# Altium footprint library IC_SMT.PcbLib: 81 footprints (part 4 of 6)
Each footprint in its own frame and in the unit in brackets; x right, y up, seen from the top. Pads: shape width x height; smd on the part's side, far side on the other; paste and mask are expansions set on the pad; w line width, h text height; cw(c..) or ccw(c..) is an arc to the next point about the centre after c.
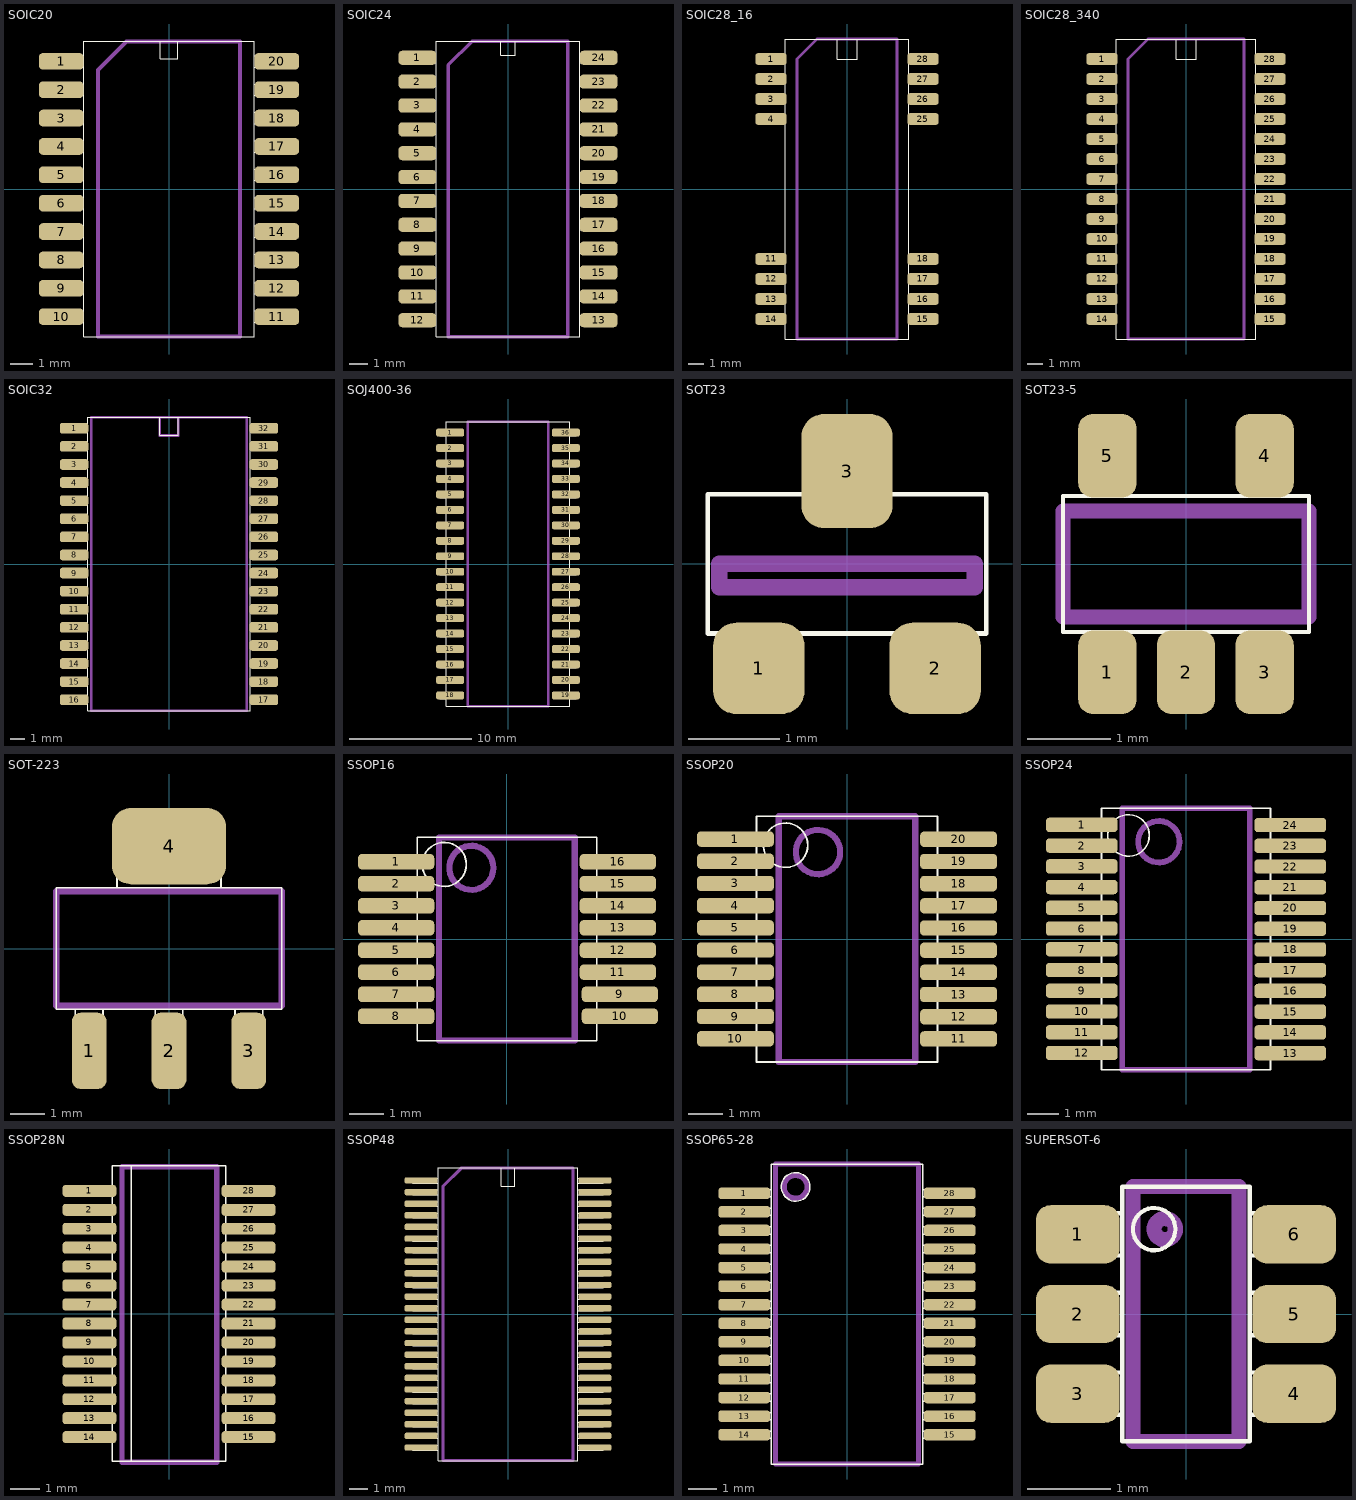
[diagram p3: the footprints below, top view; thin cyan lines are the x and y axes]

## SOIC20 [mm]
height 1.905
pads (20):
  rrect50% 2x0.75 smd paste+0: 1(-4.826,5.715) 2(-4.826,4.445) 3(-4.826,3.175) 4(-4.826,1.905) 5(-4.826,0.635) 6(-4.826,-0.635) 7(-4.826,-1.905) 8(-4.826,-3.175) 9(-4.826,-4.445) 10(-4.826,-5.715) 11(4.826,-5.715) 12(4.826,-4.445) 13(4.826,-3.175) 14(4.826,-1.905) 15(4.826,-0.635) 16(4.826,0.635) 17(4.826,1.905) 18(4.826,3.175) 19(4.826,4.445) 20(4.826,5.715)
Top Overlay:
  lines w0.05: -3.81,-5.969 -5.334,-5.969 -5.334,-5.461 -3.81,-5.461 ; -3.81,-4.699 -5.334,-4.699 -5.334,-4.191 -3.81,-4.191 ; -3.81,-3.429 -5.334,-3.429 -5.334,-2.921 -3.81,-2.921 ; -3.81,-2.159 -5.334,-2.159 -5.334,-1.651 -3.81,-1.651 ; -3.81,-0.889 -5.334,-0.889 -5.334,-0.381 -3.81,-0.381 ; -3.81,0.381 -5.334,0.381 -5.334,0.889 -3.81,0.889 ; -3.81,1.651 -5.334,1.651 -5.334,2.159 -3.81,2.159 ; -3.81,2.921 -5.334,2.921 -5.334,3.429 -3.81,3.429 ; -3.81,4.191 -5.334,4.191 -5.334,4.699 -3.81,4.699 ; -3.81,5.461 -5.334,5.461 -5.334,5.969 -3.81,5.969 ; -0.381,6.604 -0.381,5.842 0.381,5.842 0.381,6.604 ; 3.81,-5.969 5.334,-5.969 5.334,-5.461 3.81,-5.461 ; 3.81,-4.699 5.334,-4.699 5.334,-4.191 3.81,-4.191 ; 3.81,-3.429 5.334,-3.429 5.334,-2.921 3.81,-2.921 ; 3.81,-2.159 5.334,-2.159 5.334,-1.651 3.81,-1.651 ; 3.81,-0.889 5.334,-0.889 5.334,-0.381 3.81,-0.381 ; 3.81,0.381 5.334,0.381 5.334,0.889 3.81,0.889 ; 3.81,1.651 5.334,1.651 5.334,2.159 3.81,2.159 ; 3.81,2.921 5.334,2.921 5.334,3.429 3.81,3.429 ; 3.81,4.191 5.334,4.191 5.334,4.699 3.81,4.699 ; 3.81,5.461 5.334,5.461 5.334,5.969 3.81,5.969 ; -3.81,-6.604 3.81,-6.604 3.81,6.604 -3.81,6.604 -3.81,-6.604
Comp Silk:
  lines w0.18: -3.175,-6.604 3.175,-6.604 3.175,6.604 -1.905,6.604 -3.175,5.334 -3.175,-6.604
  text ".Designator" at -1.778,-6.223 h1.5

## SOIC24 [mm]
height 1.905
pads (24):
  rrect50% 2x0.75 smd paste+0: 1(-4.826,6.985) 2(-4.826,5.715) 3(-4.826,4.445) 4(-4.826,3.175) 5(-4.826,1.905) 6(-4.826,0.635) 7(-4.826,-0.635) 8(-4.826,-1.905) 9(-4.826,-3.175) 10(-4.826,-4.445) 11(-4.826,-5.715) 12(-4.826,-6.985) 13(4.826,-6.985) 14(4.826,-5.715) 15(4.826,-4.445) 16(4.826,-3.175) 17(4.826,-1.905) 18(4.826,-0.635) 19(4.826,0.635) 20(4.826,1.905) 21(4.826,3.175) 22(4.826,4.445) 23(4.826,5.715) 24(4.826,6.985)
Top Overlay:
  lines w0.05: -3.81,-7.239 -5.334,-7.239 -5.334,-6.731 -3.81,-6.731 ; -3.81,-5.969 -5.334,-5.969 -5.334,-5.461 -3.81,-5.461 ; -3.81,-4.699 -5.334,-4.699 -5.334,-4.191 -3.81,-4.191 ; -3.81,-3.429 -5.334,-3.429 -5.334,-2.921 -3.81,-2.921 ; -3.81,-2.159 -5.334,-2.159 -5.334,-1.651 -3.81,-1.651 ; -3.81,-0.889 -5.334,-0.889 -5.334,-0.381 -3.81,-0.381 ; -3.81,0.381 -5.334,0.381 -5.334,0.889 -3.81,0.889 ; -3.81,1.651 -5.334,1.651 -5.334,2.159 -3.81,2.159 ; -3.81,2.921 -5.334,2.921 -5.334,3.429 -3.81,3.429 ; -3.81,4.191 -5.334,4.191 -5.334,4.699 -3.81,4.699 ; -3.81,5.461 -5.334,5.461 -5.334,5.969 -3.81,5.969 ; -3.81,6.731 -5.334,6.731 -5.334,7.239 -3.81,7.239 ; -0.381,7.874 -0.381,7.112 0.381,7.112 0.381,7.874 ; 3.81,-7.239 5.334,-7.239 5.334,-6.731 3.81,-6.731 ; 3.81,-5.969 5.334,-5.969 5.334,-5.461 3.81,-5.461 ; 3.81,-4.699 5.334,-4.699 5.334,-4.191 3.81,-4.191 ; 3.81,-3.429 5.334,-3.429 5.334,-2.921 3.81,-2.921 ; 3.81,-2.159 5.334,-2.159 5.334,-1.651 3.81,-1.651 ; 3.81,-0.889 5.334,-0.889 5.334,-0.381 3.81,-0.381 ; 3.81,0.381 5.334,0.381 5.334,0.889 3.81,0.889 ; 3.81,1.651 5.334,1.651 5.334,2.159 3.81,2.159 ; 3.81,2.921 5.334,2.921 5.334,3.429 3.81,3.429 ; 3.81,4.191 5.334,4.191 5.334,4.699 3.81,4.699 ; 3.81,5.461 5.334,5.461 5.334,5.969 3.81,5.969 ; 3.81,6.731 5.334,6.731 5.334,7.239 3.81,7.239 ; -3.81,-7.874 -3.81,7.874 3.81,7.874 3.81,-7.874 -3.81,-7.874
Comp Silk:
  lines w0.18: -3.175,-7.874 -3.175,6.604 -1.905,7.874 3.175,7.874 3.175,-7.874 -3.175,-7.874
  text ".Designator" at -1.651,-7.239 h1.5

## SOIC28_16 [mm]
height 9.525
pads (16):
  rrect50% 2x0.75 smd paste+0: 1(-4.826,8.255) 2(-4.826,6.985) 3(-4.826,5.715) 4(-4.826,4.445) 11(-4.826,-4.445) 12(-4.826,-5.715) 13(-4.826,-6.985) 14(-4.826,-8.255) 15(4.826,-8.255) 16(4.826,-6.985) 17(4.826,-5.715) 18(4.826,-4.445) 25(4.826,4.445) 26(4.826,5.715) 27(4.826,6.985) 28(4.826,8.255)
Top Overlay:
  lines w0.05: -3.937,-8.509 -4.826,-8.509 -4.826,-8.001 -3.937,-8.001 ; -3.937,-7.239 -4.826,-7.239 -4.826,-6.731 -3.937,-6.731 ; -3.937,-5.969 -4.826,-5.969 -4.826,-5.461 -3.937,-5.461 ; -3.937,-4.699 -4.826,-4.699 -4.826,-4.191 -3.937,-4.191 ; -3.937,4.191 -4.826,4.191 -4.826,4.699 -3.937,4.699 ; -3.937,5.461 -4.826,5.461 -4.826,5.969 -3.937,5.969 ; -3.937,6.731 -4.826,6.731 -4.826,7.239 -3.937,7.239 ; -3.937,8.001 -4.826,8.001 -4.826,8.509 -3.937,8.509 ; -0.635,9.525 -0.635,8.255 0.635,8.255 0.635,9.525 ; 3.937,-8.509 4.826,-8.509 4.826,-8.001 3.937,-8.001 ; 3.937,-7.239 4.826,-7.239 4.826,-6.731 3.937,-6.731 ; 3.937,-5.969 4.826,-5.969 4.826,-5.461 3.937,-5.461 ; 3.937,-4.699 4.826,-4.699 4.826,-4.191 3.937,-4.191 ; 3.937,4.191 4.826,4.191 4.826,4.699 3.937,4.699 ; 3.937,5.461 4.826,5.461 4.826,5.969 3.937,5.969 ; 3.937,6.731 4.826,6.731 4.826,7.239 3.937,7.239 ; 3.937,8.001 4.826,8.001 4.826,8.509 3.937,8.509 ; -3.937,-9.525 -3.937,9.525 3.937,9.525 3.937,-9.525 -3.937,-9.525
Comp Silk:
  lines w0.18: -3.175,-9.525 -3.175,8.255 -1.905,9.525 3.175,9.525 3.175,-9.525 -3.175,-9.525
  text ".Designator" at -1.397,-8.382 h1.5

## SOIC28_340 [mm]
height 1.905
pads (28):
  rrect50% 2x0.75 smd paste+0: 1(-5.334,8.255) 2(-5.334,6.985) 3(-5.334,5.715) 4(-5.334,4.445) 5(-5.334,3.175) 6(-5.334,1.905) 7(-5.334,0.635) 8(-5.334,-0.635) 9(-5.334,-1.905) 10(-5.334,-3.175) 11(-5.334,-4.445) 12(-5.334,-5.715) 13(-5.334,-6.985) 14(-5.334,-8.255) 15(5.334,-8.255) 16(5.334,-6.985) 17(5.334,-5.715) 18(5.334,-4.445) 19(5.334,-3.175) 20(5.334,-1.905) 21(5.334,-0.635) 22(5.334,0.635) 23(5.334,1.905) 24(5.334,3.175) 25(5.334,4.445) 26(5.334,5.715) 27(5.334,6.985) 28(5.334,8.255)
Top Overlay:
  lines w0.05: -4.445,-8.509 -5.334,-8.509 -5.334,-8.001 -4.445,-8.001 ; -4.445,-7.239 -5.334,-7.239 -5.334,-6.731 -4.445,-6.731 ; -4.445,-5.969 -5.334,-5.969 -5.334,-5.461 -4.445,-5.461 ; -4.445,-4.699 -5.334,-4.699 -5.334,-4.191 -4.445,-4.191 ; -4.445,-3.429 -5.334,-3.429 -5.334,-2.921 -4.445,-2.921 ; -4.445,-2.159 -5.334,-2.159 -5.334,-1.651 -4.445,-1.651 ; -4.445,-0.889 -5.334,-0.889 -5.334,-0.381 -4.445,-0.381 ; -4.445,0.381 -5.334,0.381 -5.334,0.889 -4.445,0.889 ; -4.445,1.651 -5.334,1.651 -5.334,2.159 -4.445,2.159 ; -4.445,2.921 -5.334,2.921 -5.334,3.429 -4.445,3.429 ; -4.445,4.191 -5.334,4.191 -5.334,4.699 -4.445,4.699 ; -4.445,5.461 -5.334,5.461 -5.334,5.969 -4.445,5.969 ; -4.445,6.731 -5.334,6.731 -5.334,7.239 -4.445,7.239 ; -4.445,8.001 -5.334,8.001 -5.334,8.509 -4.445,8.509 ; -0.635,9.525 -0.635,8.255 0.635,8.255 0.635,9.525 ; 4.445,-8.509 5.334,-8.509 5.334,-8.001 4.445,-8.001 ; 4.445,-7.239 5.334,-7.239 5.334,-6.731 4.445,-6.731 ; 4.445,-5.969 5.334,-5.969 5.334,-5.461 4.445,-5.461 ; 4.445,-4.699 5.334,-4.699 5.334,-4.191 4.445,-4.191 ; 4.445,-3.429 5.334,-3.429 5.334,-2.921 4.445,-2.921 ; 4.445,-2.159 5.334,-2.159 5.334,-1.651 4.445,-1.651 ; 4.445,-0.889 5.334,-0.889 5.334,-0.381 4.445,-0.381 ; 4.445,0.381 5.334,0.381 5.334,0.889 4.445,0.889 ; 4.445,1.651 5.334,1.651 5.334,2.159 4.445,2.159 ; 4.445,2.921 5.334,2.921 5.334,3.429 4.445,3.429 ; 4.445,4.191 5.334,4.191 5.334,4.699 4.445,4.699 ; 4.445,5.461 5.334,5.461 5.334,5.969 4.445,5.969 ; 4.445,6.731 5.334,6.731 5.334,7.239 4.445,7.239 ; 4.445,8.001 5.334,8.001 5.334,8.509 4.445,8.509 ; -4.445,-9.525 -4.445,9.525 4.445,9.525 4.445,-9.525 -4.445,-9.525
Comp Silk:
  lines w0.18: -3.683,-9.525 -3.683,8.255 -2.413,9.525 3.683,9.525 3.683,-9.525 -3.683,-9.525
  text ".Designator" at -1.524,-9.017 h1.5

## SOIC32 [mm]
height 2.54
pads (32):
  rrect50% 2x0.75 smd paste+0: 1(-6.655,9.525) 2(-6.655,8.255) 3(-6.655,6.985) 4(-6.655,5.715) 5(-6.655,4.445) 6(-6.655,3.175) 7(-6.655,1.905) 8(-6.655,0.635) 9(-6.655,-0.635) 10(-6.655,-1.905) 11(-6.655,-3.175) 12(-6.655,-4.445) 13(-6.655,-5.715) 14(-6.655,-6.985) 15(-6.655,-8.255) 16(-6.655,-9.525) 17(6.655,-9.525) 18(6.655,-8.255) 19(6.655,-6.985) 20(6.655,-5.715) 21(6.655,-4.445) 22(6.655,-3.175) 23(6.655,-1.905) 24(6.655,-0.635) 25(6.655,0.635) 26(6.655,1.905) 27(6.655,3.175) 28(6.655,4.445) 29(6.655,5.715) 30(6.655,6.985) 31(6.655,8.255) 32(6.655,9.525)
Top Overlay:
  lines w0.05: -5.715,-9.779 -7.112,-9.779 -7.112,-9.271 -5.715,-9.271 ; -5.715,-8.509 -7.112,-8.509 -7.112,-8.001 -5.715,-8.001 ; -5.715,-7.239 -7.112,-7.239 -7.112,-6.731 -5.715,-6.731 ; -5.715,-5.969 -7.112,-5.969 -7.112,-5.461 -5.715,-5.461 ; -5.715,-4.699 -7.112,-4.699 -7.112,-4.191 -5.715,-4.191 ; -5.715,-3.429 -7.112,-3.429 -7.112,-2.921 -5.715,-2.921 ; -5.715,-2.159 -7.112,-2.159 -7.112,-1.651 -5.715,-1.651 ; -5.715,-0.889 -7.112,-0.889 -7.112,-0.381 -5.715,-0.381 ; -5.715,0.381 -7.112,0.381 -7.112,0.889 -5.715,0.889 ; -5.715,1.651 -7.112,1.651 -7.112,2.159 -5.715,2.159 ; -5.715,2.921 -7.112,2.921 -7.112,3.429 -5.715,3.429 ; -5.715,4.191 -7.112,4.191 -7.112,4.699 -5.715,4.699 ; -5.715,5.461 -7.112,5.461 -7.112,5.969 -5.715,5.969 ; -5.715,6.731 -7.112,6.731 -7.112,7.239 -5.715,7.239 ; -5.715,8.001 -7.112,8.001 -7.112,8.509 -5.715,8.509 ; -5.715,9.271 -7.112,9.271 -7.112,9.779 -5.715,9.779 ; -0.635,10.287 -0.635,9.017 0.635,9.017 0.635,10.287 ; 5.715,-9.779 7.112,-9.779 7.112,-9.271 5.715,-9.271 ; 5.715,-8.509 7.112,-8.509 7.112,-8.001 5.715,-8.001 ; 5.715,-7.239 7.112,-7.239 7.112,-6.731 5.715,-6.731 ; 5.715,-5.969 7.112,-5.969 7.112,-5.461 5.715,-5.461 ; 5.715,-4.699 7.112,-4.699 7.112,-4.191 5.715,-4.191 ; 5.715,-3.429 7.112,-3.429 7.112,-2.921 5.715,-2.921 ; 5.715,-2.159 7.112,-2.159 7.112,-1.651 5.715,-1.651 ; 5.715,-0.889 7.112,-0.889 7.112,-0.381 5.715,-0.381 ; 5.715,0.381 7.112,0.381 7.112,0.889 5.715,0.889 ; 5.715,1.651 7.112,1.651 7.112,2.159 5.715,2.159 ; 5.715,2.921 7.112,2.921 7.112,3.429 5.715,3.429 ; 5.715,4.191 7.112,4.191 7.112,4.699 5.715,4.699 ; 5.715,5.461 7.112,5.461 7.112,5.969 5.715,5.969 ; 5.715,6.731 7.112,6.731 7.112,7.239 5.715,7.239 ; 5.715,8.001 7.112,8.001 7.112,8.509 5.715,8.509 ; 5.715,9.271 7.112,9.271 7.112,9.779 5.715,9.779 ; -5.715,-10.287 5.715,-10.287 5.715,10.287 -5.715,10.287 -5.715,-10.287
Comp Silk:
  lines w0.18: -0.635,10.287 -0.635,9.017 0.635,9.017 0.635,10.287 ; -5.461,-10.287 -5.461,10.287 5.461,10.287 5.461,-10.287 -5.461,-10.287
  text ".Designator" at -2.794,-9.271 h1.5

## SOJ400-36 [mm]
height 3.81
pads (36):
  rrect50% 2.3x0.65 smd paste+0: 1(-4.75,10.795) 2(-4.75,9.525) 3(-4.75,8.255) 4(-4.75,6.985) 5(-4.75,5.715) 6(-4.75,4.445) 7(-4.75,3.175) 8(-4.75,1.905) 9(-4.75,0.635) 10(-4.75,-0.635) 11(-4.75,-1.905) 12(-4.75,-3.175) 13(-4.75,-4.445) 14(-4.75,-5.715) 15(-4.75,-6.985) 16(-4.75,-8.255) 17(-4.75,-9.525) 18(-4.75,-10.795) 19(4.75,-10.795) 20(4.75,-9.525) 21(4.75,-8.255) 22(4.75,-6.985) 23(4.75,-5.715) 24(4.75,-4.445) 25(4.75,-3.175) 26(4.75,-1.905) 27(4.75,-0.635) 28(4.75,0.635) 29(4.75,1.905) 30(4.75,3.175) 31(4.75,4.445) 32(4.75,5.715) 33(4.75,6.985) 34(4.75,8.255) 35(4.75,9.525) 36(4.75,10.795)
MidLayer4:
  lines w0.051: -6.477,-12.319 -6.477,12.319 6.477,12.319 6.477,-12.319 -6.477,-12.319
Top Overlay:
  lines w0.05: -5.08,-11.049 -5.588,-11.049 -5.588,-10.541 -5.08,-10.541 ; -5.08,-9.779 -5.588,-9.779 -5.588,-9.271 -5.08,-9.271 ; -5.08,-8.509 -5.588,-8.509 -5.588,-8.001 -5.08,-8.001 ; -5.08,-7.239 -5.588,-7.239 -5.588,-6.731 -5.08,-6.731 ; -5.08,-5.969 -5.588,-5.969 -5.588,-5.461 -5.08,-5.461 ; -5.08,-4.699 -5.588,-4.699 -5.588,-4.191 -5.08,-4.191 ; -5.08,-3.429 -5.588,-3.429 -5.588,-2.921 -5.08,-2.921 ; -5.08,-2.159 -5.588,-2.159 -5.588,-1.651 -5.08,-1.651 ; -5.08,-0.889 -5.588,-0.889 -5.588,-0.381 -5.08,-0.381 ; -5.08,0.381 -5.588,0.381 -5.588,0.889 -5.08,0.889 ; -5.08,1.651 -5.588,1.651 -5.588,2.159 -5.08,2.159 ; -5.08,2.921 -5.588,2.921 -5.588,3.429 -5.08,3.429 ; -5.08,4.191 -5.588,4.191 -5.588,4.699 -5.08,4.699 ; -5.08,5.461 -5.588,5.461 -5.588,5.969 -5.08,5.969 ; -5.08,6.731 -5.588,6.731 -5.588,7.239 -5.08,7.239 ; -5.08,8.001 -5.588,8.001 -5.588,8.509 -5.08,8.509 ; -5.08,9.271 -5.588,9.271 -5.588,9.779 -5.08,9.779 ; -5.08,10.541 -5.588,10.541 -5.588,11.049 -5.08,11.049 ; 5.08,-11.049 5.588,-11.049 5.588,-10.541 5.08,-10.541 ; 5.08,-9.779 5.588,-9.779 5.588,-9.271 5.08,-9.271 ; 5.08,-8.509 5.588,-8.509 5.588,-8.001 5.08,-8.001 ; 5.08,-7.239 5.588,-7.239 5.588,-6.731 5.08,-6.731 ; 5.08,-5.969 5.588,-5.969 5.588,-5.461 5.08,-5.461 ; 5.08,-4.699 5.588,-4.699 5.588,-4.191 5.08,-4.191 ; 5.08,-3.429 5.588,-3.429 5.588,-2.921 5.08,-2.921 ; 5.08,-2.159 5.588,-2.159 5.588,-1.651 5.08,-1.651 ; 5.08,-0.889 5.588,-0.889 5.588,-0.381 5.08,-0.381 ; 5.08,0.381 5.588,0.381 5.588,0.889 5.08,0.889 ; 5.08,1.651 5.588,1.651 5.588,2.159 5.08,2.159 ; 5.08,2.921 5.588,2.921 5.588,3.429 5.08,3.429 ; 5.08,4.191 5.588,4.191 5.588,4.699 5.08,4.699 ; 5.08,5.461 5.588,5.461 5.588,5.969 5.08,5.969 ; 5.08,6.731 5.588,6.731 5.588,7.239 5.08,7.239 ; 5.08,8.001 5.588,8.001 5.588,8.509 5.08,8.509 ; 5.08,9.271 5.588,9.271 5.588,9.779 5.08,9.779 ; 5.08,10.541 5.588,10.541 5.588,11.049 5.08,11.049 ; -5.08,-11.684 5.08,-11.684 5.08,11.684 -5.08,11.684 -5.08,-11.684
Comp Silk:
  lines w0.18: -3.302,-11.684 -3.302,11.684 3.302,11.684 3.302,-11.684 -3.302,-11.684
  text ".Designator" at -1.016,-8.128 h1.5

## SOT23 [mm]
height 1.27
pads (3):
  rrect50% 1x1 smd paste+0: 1(-0.965,-1.143) 2(0.965,-1.143)
  rrect50% 1x1.25 smd paste+0: 3(0,1.016)
Top Overlay:
  lines w0.05: -1.219,-0.762 -1.219,-1.524 -0.711,-1.524 -0.711,-0.762 ; -0.254,0.762 -0.254,1.524 0.254,1.524 0.254,0.762 ; 0.711,-0.762 0.711,-1.524 1.219,-1.524 1.219,-0.762 ; -1.524,-0.762 -1.524,0.762 1.524,0.762 1.524,-0.762 -1.524,-0.762
Comp Silk:
  lines w0.18: -1.397,-0.254 -1.397,0 1.397,0 1.397,-0.254 -1.397,-0.254
  text ".Designator" at -1.524,0.254 h1.5

## SOT23-5 [mm]
height 1.27
pads (5):
  rrect50% 0.7x1 smd paste+0: 1(-0.94,-1.295) 2(0,-1.295) 3(0.94,-1.295) 4(0.94,1.295) 5(-0.94,1.295)
Top Overlay:
  lines w0.05: -1.143,-0.813 -1.143,-1.448 -0.737,-1.448 -0.737,-0.813 ; -1.143,0.813 -1.143,1.448 -0.737,1.448 -0.737,0.813 ; -0.203,-0.813 -0.203,-1.448 0.203,-1.448 0.203,-0.813 ; 0.737,-0.813 0.737,-1.448 1.143,-1.448 1.143,-0.813 ; 0.737,0.813 0.737,1.448 1.143,1.448 1.143,0.813 ; -1.473,-0.813 -1.473,0.813 1.473,0.813 1.473,-0.813 -1.473,-0.813
Comp Silk:
  lines w0.18: -1.473,-0.635 -1.473,0.635 1.473,0.635 1.473,-0.635 -1.473,-0.635
  text ".Designator" at -1.6,0.254 h1.5

## SOT-223 [mm]
height 2.54
pads (4):
  rrect50% 1x2.2 smd paste+0: 1(-2.3,-2.95) 2(0,-2.95) 3(2.3,-2.95)
  rrect50% 3.3x2.2 smd paste+0: 4(0,2.95)
Top Overlay:
  lines w0.05: -2.7,-1.75 -2.7,-3.5 -1.9,-3.5 -1.9,-1.75 ; -1.5,1.75 -1.5,3.5 1.5,3.5 1.5,1.75 ; -0.4,-1.75 -0.4,-3.5 0.4,-3.5 0.4,-1.75 ; 1.9,-1.75 1.9,-3.5 2.7,-3.5 2.7,-1.75 ; -3.25,-1.75 -3.25,1.75 3.25,1.75 3.25,-1.75 -3.25,-1.75
Comp Silk:
  lines w0.18: -3.25,-1.65 -3.25,1.65 3.25,1.65 3.25,-1.65 -3.25,-1.65
  text ".Designator" at -3.048,0.762 h1.5

## SSOP16 [mm]
height 2.032
pads (16):
  rrect50% 2.25x0.45 smd paste+0: 1(-3.27,2.28) 2(-3.27,1.63) 3(-3.27,0.98) 4(-3.27,0.33) 5(-3.27,-0.33) 6(-3.27,-0.98) 7(-3.27,-1.63) 8(-3.27,-2.28) 9(3.33,-1.63) 10(3.33,-2.28) 11(3.27,-0.98) 12(3.27,-0.33) 13(3.27,0.33) 14(3.27,0.98) 15(3.27,1.63) 16(3.27,2.28)
Top Overlay:
  circle w0.05: c-1.85,2.2 r0.65
  lines w0.05: -2.65,-2.4 -3.9,-2.4 -3.9,-2.15 -2.65,-2.15 ; -2.65,-1.75 -3.9,-1.75 -3.9,-1.5 -2.65,-1.5 ; -2.65,-1.1 -3.9,-1.1 -3.9,-0.85 -2.65,-0.85 ; -2.65,-0.45 -3.9,-0.45 -3.9,-0.2 -2.65,-0.2 ; -2.65,0.2 -3.9,0.2 -3.9,0.45 -2.65,0.45 ; -2.65,0.85 -3.9,0.85 -3.9,1.1 -2.65,1.1 ; -2.65,1.5 -3.9,1.5 -3.9,1.75 -2.65,1.75 ; -2.65,2.15 -3.9,2.15 -3.9,2.4 -2.65,2.4 ; 2.65,-2.4 3.9,-2.4 3.9,-2.15 2.65,-2.15 ; 2.65,-1.75 3.9,-1.75 3.9,-1.5 2.65,-1.5 ; 2.65,-1.1 3.9,-1.1 3.9,-0.85 2.65,-0.85 ; 2.65,-0.45 3.9,-0.45 3.9,-0.2 2.65,-0.2 ; 2.65,0.2 3.9,0.2 3.9,0.45 2.65,0.45 ; 2.65,0.85 3.9,0.85 3.9,1.1 2.65,1.1 ; 2.65,1.5 3.9,1.5 3.9,1.75 2.65,1.75 ; 2.65,2.15 3.9,2.15 3.9,2.4 2.65,2.4 ; -2.65,-3 2.65,-3 2.65,3 -2.65,3 -2.65,-3
Comp Silk:
  circle w0.18: c-1.05,2.1 r0.65
  lines w0.18: -2,-3 -2,3 2,3 2,-3 -2,-3
  text ".Designator" at 0.3,-2.9 h1.5

## SSOP20 [mm]
height 2.032
pads (20):
  rrect50% 2.25x0.45 smd paste+0: 1(-3.27,2.93) 2(-3.27,2.28) 3(-3.27,1.63) 4(-3.27,0.98) 5(-3.27,0.33) 6(-3.27,-0.32) 7(-3.27,-0.97) 8(-3.27,-1.62) 9(-3.27,-2.27) 10(-3.27,-2.92) 11(3.27,-2.925) 12(3.27,-2.275) 13(3.27,-1.625) 14(3.27,-0.975) 15(3.27,-0.325) 16(3.27,0.325) 17(3.27,0.975) 18(3.27,1.625) 19(3.27,2.275) 20(3.27,2.925)
Top Overlay:
  circle w0.05: c-1.8,2.75 r0.65
  lines w0.05: -2.65,-3.05 -3.9,-3.05 -3.9,-2.8 -2.65,-2.8 ; -2.65,-2.4 -3.9,-2.4 -3.9,-2.15 -2.65,-2.15 ; -2.65,-1.75 -3.9,-1.75 -3.9,-1.5 -2.65,-1.5 ; -2.65,-1.1 -3.9,-1.1 -3.9,-0.85 -2.65,-0.85 ; -2.65,-0.45 -3.9,-0.45 -3.9,-0.2 -2.65,-0.2 ; -2.65,0.2 -3.9,0.2 -3.9,0.45 -2.65,0.45 ; -2.65,0.85 -3.9,0.85 -3.9,1.1 -2.65,1.1 ; -2.65,1.5 -3.9,1.5 -3.9,1.75 -2.65,1.75 ; -2.65,2.15 -3.9,2.15 -3.9,2.4 -2.65,2.4 ; -2.65,2.8 -3.9,2.8 -3.9,3.05 -2.65,3.05 ; 2.65,-3.05 3.9,-3.05 3.9,-2.8 2.65,-2.8 ; 2.65,-2.4 3.9,-2.4 3.9,-2.15 2.65,-2.15 ; 2.65,-1.75 3.9,-1.75 3.9,-1.5 2.65,-1.5 ; 2.65,-1.1 3.9,-1.1 3.9,-0.85 2.65,-0.85 ; 2.65,-0.45 3.9,-0.45 3.9,-0.2 2.65,-0.2 ; 2.65,0.2 3.9,0.2 3.9,0.45 2.65,0.45 ; 2.65,0.85 3.9,0.85 3.9,1.1 2.65,1.1 ; 2.65,1.5 3.9,1.5 3.9,1.75 2.65,1.75 ; 2.65,2.15 3.9,2.15 3.9,2.4 2.65,2.4 ; 2.65,2.8 3.9,2.8 3.9,3.05 2.65,3.05 ; -2.65,-3.6 -2.65,3.6 2.65,3.6 2.65,-3.6 -2.65,-3.6
Comp Silk:
  circle w0.18: c-0.85,2.55 r0.65
  lines w0.18: -2,-3.6 2,-3.6 2,3.6 -2,3.6 -2,-3.6
  text ".Designator" at -0.508,-3.727 h1.5

## SSOP24 [mm]
height 1.905
pads (24):
  rrect50% 2.25x0.45 smd paste+0: 1(-3.27,3.58) 2(-3.27,2.93) 3(-3.27,2.28) 4(-3.27,1.63) 5(-3.27,0.98) 6(-3.27,0.33) 7(-3.27,-0.32) 8(-3.27,-0.97) 9(-3.27,-1.62) 10(-3.27,-2.27) 11(-3.27,-2.92) 12(-3.27,-3.57) 13(3.27,-3.575) 14(3.27,-2.925) 15(3.27,-2.275) 16(3.27,-1.625) 17(3.27,-0.975) 18(3.27,-0.325) 19(3.27,0.325) 20(3.27,0.975) 21(3.27,1.625) 22(3.27,2.275) 23(3.27,2.925) 24(3.27,3.575)
Top Overlay:
  circle w0.05: c-1.8,3.25 r0.65
  lines w0.05: -2.65,-3.7 -3.9,-3.7 -3.9,-3.45 -2.65,-3.45 ; -2.65,-3.05 -3.9,-3.05 -3.9,-2.8 -2.65,-2.8 ; -2.65,-2.4 -3.9,-2.4 -3.9,-2.15 -2.65,-2.15 ; -2.65,-1.75 -3.9,-1.75 -3.9,-1.5 -2.65,-1.5 ; -2.65,-1.1 -3.9,-1.1 -3.9,-0.85 -2.65,-0.85 ; -2.65,-0.45 -3.9,-0.45 -3.9,-0.2 -2.65,-0.2 ; -2.65,0.2 -3.9,0.2 -3.9,0.45 -2.65,0.45 ; -2.65,0.85 -3.9,0.85 -3.9,1.1 -2.65,1.1 ; -2.65,1.5 -3.9,1.5 -3.9,1.75 -2.65,1.75 ; -2.65,2.15 -3.9,2.15 -3.9,2.4 -2.65,2.4 ; -2.65,2.8 -3.9,2.8 -3.9,3.05 -2.65,3.05 ; -2.65,3.45 -3.9,3.45 -3.9,3.7 -2.65,3.7 ; 2.65,-3.7 3.9,-3.7 3.9,-3.45 2.65,-3.45 ; 2.65,-3.05 3.9,-3.05 3.9,-2.8 2.65,-2.8 ; 2.65,-2.4 3.9,-2.4 3.9,-2.15 2.65,-2.15 ; 2.65,-1.75 3.9,-1.75 3.9,-1.5 2.65,-1.5 ; 2.65,-1.1 3.9,-1.1 3.9,-0.85 2.65,-0.85 ; 2.65,-0.45 3.9,-0.45 3.9,-0.2 2.65,-0.2 ; 2.65,0.2 3.9,0.2 3.9,0.45 2.65,0.45 ; 2.65,0.85 3.9,0.85 3.9,1.1 2.65,1.1 ; 2.65,1.5 3.9,1.5 3.9,1.75 2.65,1.75 ; 2.65,2.15 3.9,2.15 3.9,2.4 2.65,2.4 ; 2.65,2.8 3.9,2.8 3.9,3.05 2.65,3.05 ; 2.65,3.45 3.9,3.45 3.9,3.7 2.65,3.7 ; -2.65,-4.1 -2.65,4.1 2.65,4.1 2.65,-4.1 -2.65,-4.1
Comp Silk:
  circle w0.18: c-0.85,3.05 r0.65
  lines w0.18: -2,-4.1 2,-4.1 2,4.1 -2,4.1 -2,-4.1
  text ".Designator" at -0.508,-3.683 h1.5

## SSOP28N [mm]
height 2.54
pads (28):
  rrect50% 1.8x0.4 smd paste+0: 1(-2.667,4.115) 2(-2.667,3.48) 3(-2.667,2.845) 4(-2.667,2.21) 5(-2.667,1.575) 6(-2.667,0.94) 7(-2.667,0.305) 8(-2.667,-0.33) 9(-2.667,-0.965) 10(-2.667,-1.6) 11(-2.667,-2.235) 12(-2.667,-2.87) 13(-2.667,-3.505) 14(-2.667,-4.14) 15(2.667,-4.14) 16(2.667,-3.505) 17(2.667,-2.87) 18(2.667,-2.235) 19(2.667,-1.6) 20(2.667,-0.965) 21(2.667,-0.33) 22(2.667,0.305) 23(2.667,0.94) 24(2.667,1.575) 25(2.667,2.21) 26(2.667,2.845) 27(2.667,3.48) 28(2.667,4.115)
Top Overlay:
  lines w0.05: -1.905,-4.267 -3.048,-4.267 -3.048,-4.013 -1.905,-4.013 ; -1.905,-3.632 -3.048,-3.632 -3.048,-3.378 -1.905,-3.378 ; -1.905,-2.997 -3.048,-2.997 -3.048,-2.743 -1.905,-2.743 ; -1.905,-2.362 -3.048,-2.362 -3.048,-2.108 -1.905,-2.108 ; -1.905,-1.727 -3.048,-1.727 -3.048,-1.473 -1.905,-1.473 ; -1.905,-1.092 -3.048,-1.092 -3.048,-0.838 -1.905,-0.838 ; -1.905,-0.457 -3.048,-0.457 -3.048,-0.203 -1.905,-0.203 ; -1.905,0.178 -3.048,0.178 -3.048,0.432 -1.905,0.432 ; -1.905,0.813 -3.048,0.813 -3.048,1.067 -1.905,1.067 ; -1.905,1.448 -3.048,1.448 -3.048,1.702 -1.905,1.702 ; -1.905,2.083 -3.048,2.083 -3.048,2.337 -1.905,2.337 ; -1.905,2.718 -3.048,2.718 -3.048,2.972 -1.905,2.972 ; -1.905,3.353 -3.048,3.353 -3.048,3.607 -1.905,3.607 ; -1.905,3.988 -3.048,3.988 -3.048,4.242 -1.905,4.242 ; -1.27,-4.953 -1.27,4.953 ; 1.905,-4.267 3.048,-4.267 3.048,-4.013 1.905,-4.013 ; 1.905,-3.632 3.048,-3.632 3.048,-3.378 1.905,-3.378 ; 1.905,-2.997 3.048,-2.997 3.048,-2.743 1.905,-2.743 ; 1.905,-2.362 3.048,-2.362 3.048,-2.108 1.905,-2.108 ; 1.905,-1.727 3.048,-1.727 3.048,-1.473 1.905,-1.473 ; 1.905,-1.092 3.048,-1.092 3.048,-0.838 1.905,-0.838 ; 1.905,-0.457 3.048,-0.457 3.048,-0.203 1.905,-0.203 ; 1.905,0.178 3.048,0.178 3.048,0.432 1.905,0.432 ; 1.905,0.813 3.048,0.813 3.048,1.067 1.905,1.067 ; 1.905,1.448 3.048,1.448 3.048,1.702 1.905,1.702 ; 1.905,2.083 3.048,2.083 3.048,2.337 1.905,2.337 ; 1.905,2.718 3.048,2.718 3.048,2.972 1.905,2.972 ; 1.905,3.353 3.048,3.353 3.048,3.607 1.905,3.607 ; 1.905,3.988 3.048,3.988 3.048,4.242 1.905,4.242 ; -1.905,-4.953 -1.905,4.953 1.905,4.953 1.905,-4.953 -1.905,-4.953
Comp Silk:
  lines w0.18: -1.577,-4.985 1.598,-4.985 1.598,4.921 -1.577,4.921 -1.577,-4.985
  text ".Designator" at -0.381,-4.445 h1.5

## SSOP48 [mm]
height 2.54
pads (48):
  rrect50% 1.8x0.35 smd paste+0: 1(-4.75,7.315) 2(-4.75,6.68) 3(-4.75,6.045) 4(-4.75,5.41) 5(-4.75,4.775) 6(-4.75,4.14) 7(-4.75,3.505) 8(-4.75,2.87) 9(-4.75,2.235) 10(-4.75,1.6) 11(-4.75,0.965) 12(-4.75,0.33) 13(-4.75,-0.305) 14(-4.75,-0.94) 15(-4.75,-1.575) 16(-4.75,-2.21) 17(-4.75,-2.845) 18(-4.75,-3.48) 19(-4.75,-4.115) 20(-4.75,-4.75) 21(-4.75,-5.385) 22(-4.75,-6.02) 23(-4.75,-6.655) 24(-4.75,-7.29) 25(4.75,-7.29) 26(4.75,-6.655) 27(4.75,-6.02) 28(4.75,-5.385) 29(4.75,-4.75) 30(4.75,-4.115) 31(4.75,-3.48) 32(4.75,-2.845) 33(4.75,-2.21) 34(4.75,-1.575) 35(4.75,-0.94) 36(4.75,-0.305) 37(4.75,0.33) 38(4.75,0.965) 39(4.75,1.6) 40(4.75,2.235) 41(4.75,2.87) 42(4.75,3.505) 43(4.75,4.14) 44(4.75,4.775) 45(4.75,5.41) 46(4.75,6.045) 47(4.75,6.68) 48(4.75,7.315)
Top Overlay:
  drawing of 151 lines, arcs and shapes, not listed
Comp Silk:
  lines w0.18: -3.556,-8.001 3.556,-8.001 3.556,8.001 -2.54,8.001 -3.556,6.985 -3.556,-8.001
  text ".Designator" at -1.778,-7.493 h1.5

## SSOP65-28 [mm]
height 3.048
pads (28):
  rrect50% 1.8x0.4 smd paste+0: 1(-3.6,4.225) 2(-3.6,3.575) 3(-3.6,2.925) 4(-3.6,2.275) 5(-3.6,1.625) 6(-3.6,0.975) 7(-3.6,0.325) 8(-3.6,-0.325) 9(-3.6,-0.975) 10(-3.6,-1.625) 11(-3.6,-2.275) 12(-3.6,-2.925) 13(-3.6,-3.575) 14(-3.6,-4.225) 15(3.6,-4.225) 16(3.6,-3.575) 17(3.6,-2.925) 18(3.6,-2.275) 19(3.6,-1.625) 20(3.6,-0.975) 21(3.6,-0.325) 22(3.6,0.325) 23(3.6,0.975) 24(3.6,1.625) 25(3.6,2.275) 26(3.6,2.925) 27(3.6,3.575) 28(3.6,4.225)
Top Overlay:
  circle w0.05: c-1.8,4.45 r0.5
  lines w0.05: -2.65,-4.35 -3.9,-4.35 -3.9,-4.1 -2.65,-4.1 ; -2.65,-3.7 -3.9,-3.7 -3.9,-3.45 -2.65,-3.45 ; -2.65,-3.05 -3.9,-3.05 -3.9,-2.8 -2.65,-2.8 ; -2.65,-2.4 -3.9,-2.4 -3.9,-2.15 -2.65,-2.15 ; -2.65,-1.75 -3.9,-1.75 -3.9,-1.5 -2.65,-1.5 ; -2.65,-1.1 -3.9,-1.1 -3.9,-0.85 -2.65,-0.85 ; -2.65,-0.45 -3.9,-0.45 -3.9,-0.2 -2.65,-0.2 ; -2.65,0.2 -3.9,0.2 -3.9,0.45 -2.65,0.45 ; -2.65,0.85 -3.9,0.85 -3.9,1.1 -2.65,1.1 ; -2.65,1.5 -3.9,1.5 -3.9,1.75 -2.65,1.75 ; -2.65,2.15 -3.9,2.15 -3.9,2.4 -2.65,2.4 ; -2.65,2.8 -3.9,2.8 -3.9,3.05 -2.65,3.05 ; -2.65,3.45 -3.9,3.45 -3.9,3.7 -2.65,3.7 ; -2.65,4.1 -3.9,4.1 -3.9,4.35 -2.65,4.35 ; 2.65,-4.35 3.9,-4.35 3.9,-4.1 2.65,-4.1 ; 2.65,-3.7 3.9,-3.7 3.9,-3.45 2.65,-3.45 ; 2.65,-3.05 3.9,-3.05 3.9,-2.8 2.65,-2.8 ; 2.65,-2.4 3.9,-2.4 3.9,-2.15 2.65,-2.15 ; 2.65,-1.75 3.9,-1.75 3.9,-1.5 2.65,-1.5 ; 2.65,-1.1 3.9,-1.1 3.9,-0.85 2.65,-0.85 ; 2.65,-0.45 3.9,-0.45 3.9,-0.2 2.65,-0.2 ; 2.65,0.2 3.9,0.2 3.9,0.45 2.65,0.45 ; 2.65,0.85 3.9,0.85 3.9,1.1 2.65,1.1 ; 2.65,1.5 3.9,1.5 3.9,1.75 2.65,1.75 ; 2.65,2.15 3.9,2.15 3.9,2.4 2.65,2.4 ; 2.65,2.8 3.9,2.8 3.9,3.05 2.65,3.05 ; 2.65,3.45 3.9,3.45 3.9,3.7 2.65,3.7 ; 2.65,4.1 3.9,4.1 3.9,4.35 2.65,4.35 ; -2.65,-5.25 2.65,-5.25 2.65,5.25 -2.65,5.25 -2.65,-5.25
Comp Silk:
  circle w0.18: c-1.8,4.45 r0.4
  lines w0.18: -2.5,-5.25 -2.5,5.25 2.5,5.25 2.5,-5.25 -2.5,-5.25
  text ".Designator" at -1.143,-4.826 h1.5

## SUPERSOT-6 [mm]
height 1.905
pads (6):
  rrect50% 1x0.7 smd paste+0: 1(-1.295,0.953) 2(-1.295,0) 3(-1.295,-0.953) 4(1.295,-0.953) 5(1.295,0) 6(1.295,0.953)
Top Overlay:
  circle w0.05: c-0.381,1.016 r0.254
  lines w0.05: -0.762,-1.206 -1.524,-1.206 -1.524,-0.699 -0.762,-0.699 ; -0.762,-0.254 -1.524,-0.254 -1.524,0.254 -0.762,0.254 ; -0.762,0.699 -1.524,0.699 -1.524,1.206 -0.762,1.206 ; 0.762,-1.206 1.524,-1.206 1.524,-0.699 0.762,-0.699 ; 0.762,-0.254 1.524,-0.254 1.524,0.254 0.762,0.254 ; 0.762,0.699 1.524,0.699 1.524,1.206 0.762,1.206 ; -0.762,-1.524 0.762,-1.524 0.762,1.524 -0.762,1.524 -0.762,-1.524
Comp Silk:
  circle w0.18: c-0.254,1.016 r0.127
  lines w0.18: -0.635,-1.524 -0.635,1.524 0.635,1.524 0.635,-1.524 -0.635,-1.524
  text ".Designator" at -0.127,-1.651 h1.5